# Altium schematic symbol library LM2596SX-5.0_NOPB.Schlib: 1 symbol
Pins are listed as number, name and electrical type; pins without a type are passive.

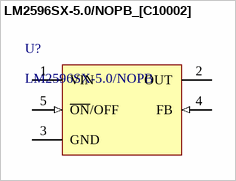
[diagram p0: symbol LM2596SX-5.0/NOPB_[C10002]]

## LM2596SX-5.0/NOPB_[C10002]
designator U?, comment LM2596SX-5.0/NOPB
DC-DC芯片
footprint TO-263-5
pins: 1 VIN (power), 2 OUT (power), 3 GND (power), 4 FB (in), 5 ~{ON}/OFF (in)